# EAGLE library part POWER_MATE_SAMTEC_2X5 (library hsk_2012)
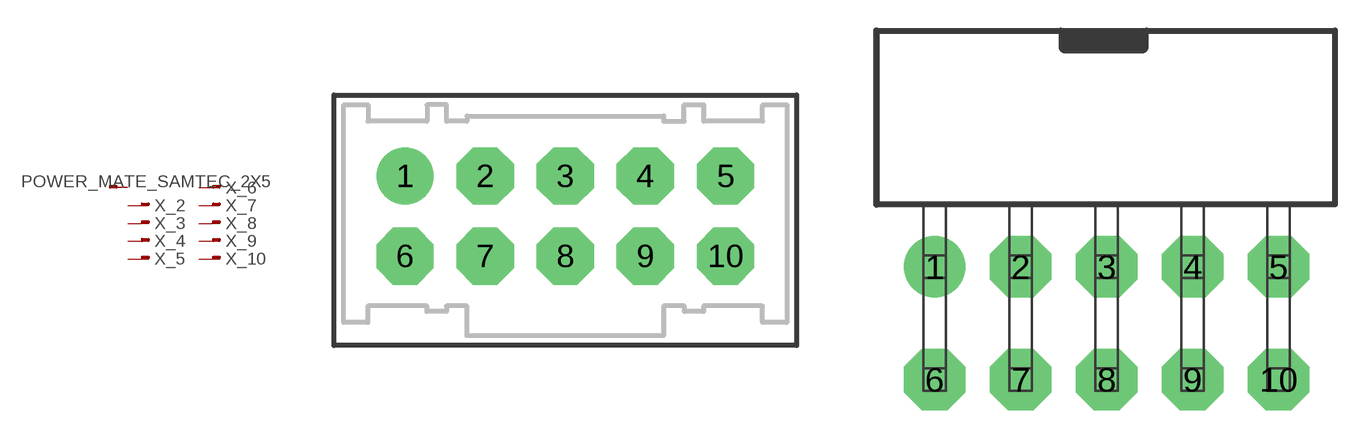
[diagram p32: symbol with the pads of POWER_MATE_SAMTEC_2X5; footprints POWER_MATE_SAMTEC_2X5, POWER_MATE_SAMTEC_2X5_90]

Designator prefix X; gates 1=SINGLE_PAD _2=CON _3=CON _4=CON _5=CON _6=CON _7=CON _8=CON _9=CON _10=CON

## POWER_MATE_SAMTEC_2X5_1  [POWER_MATE_SAMTEC_2X5]
1  1:1
2  _2:CON
3  _3:CON
4  _4:CON
5  _5:CON
6  _6:CON
7  _7:CON
8  _8:CON
9  _9:CON
10  _10:CON

## POWER_MATE_SAMTEC_2X5_2  [POWER_MATE_SAMTEC_2X5_90]
Pads as for POWER_MATE_SAMTEC_2X5

## Footprint POWER_MATE_SAMTEC_2X5 (pad centres in mm)
drill 1.77 pad 3: 1 -8.382,2.095
drill 1.77 pad 3 octagon: 2 -4.191,2.095; 3 0,2.095; 4 4.191,2.095; 5 8.382,2.095; 6 -8.382,-2.095; 7 -4.191,-2.095; 8 0,-2.095; 9 4.191,-2.095; 10 8.382,-2.095

## Footprint POWER_MATE_SAMTEC_2X5_90 (pad centres in mm)
drill 1.778 pad 3: 1 -8.4,2.755
drill 1.778 pad 3 octagon: 2 -4.2,2.755; 3 0,2.755; 4 4.2,2.755; 5 8.4,2.755; 6 -8.4,-2.755; 7 -4.2,-2.755; 8 0,-2.755; 9 4.2,-2.755; 10 8.4,-2.755